# Altium schematic symbol library SCH - MCU - STM32 - ST MICROELECTRONICS STM32H750IBKX UFBGA176.SchLib: 1 symbol
Pins are listed as number, name and electrical type; pins without a type are passive.

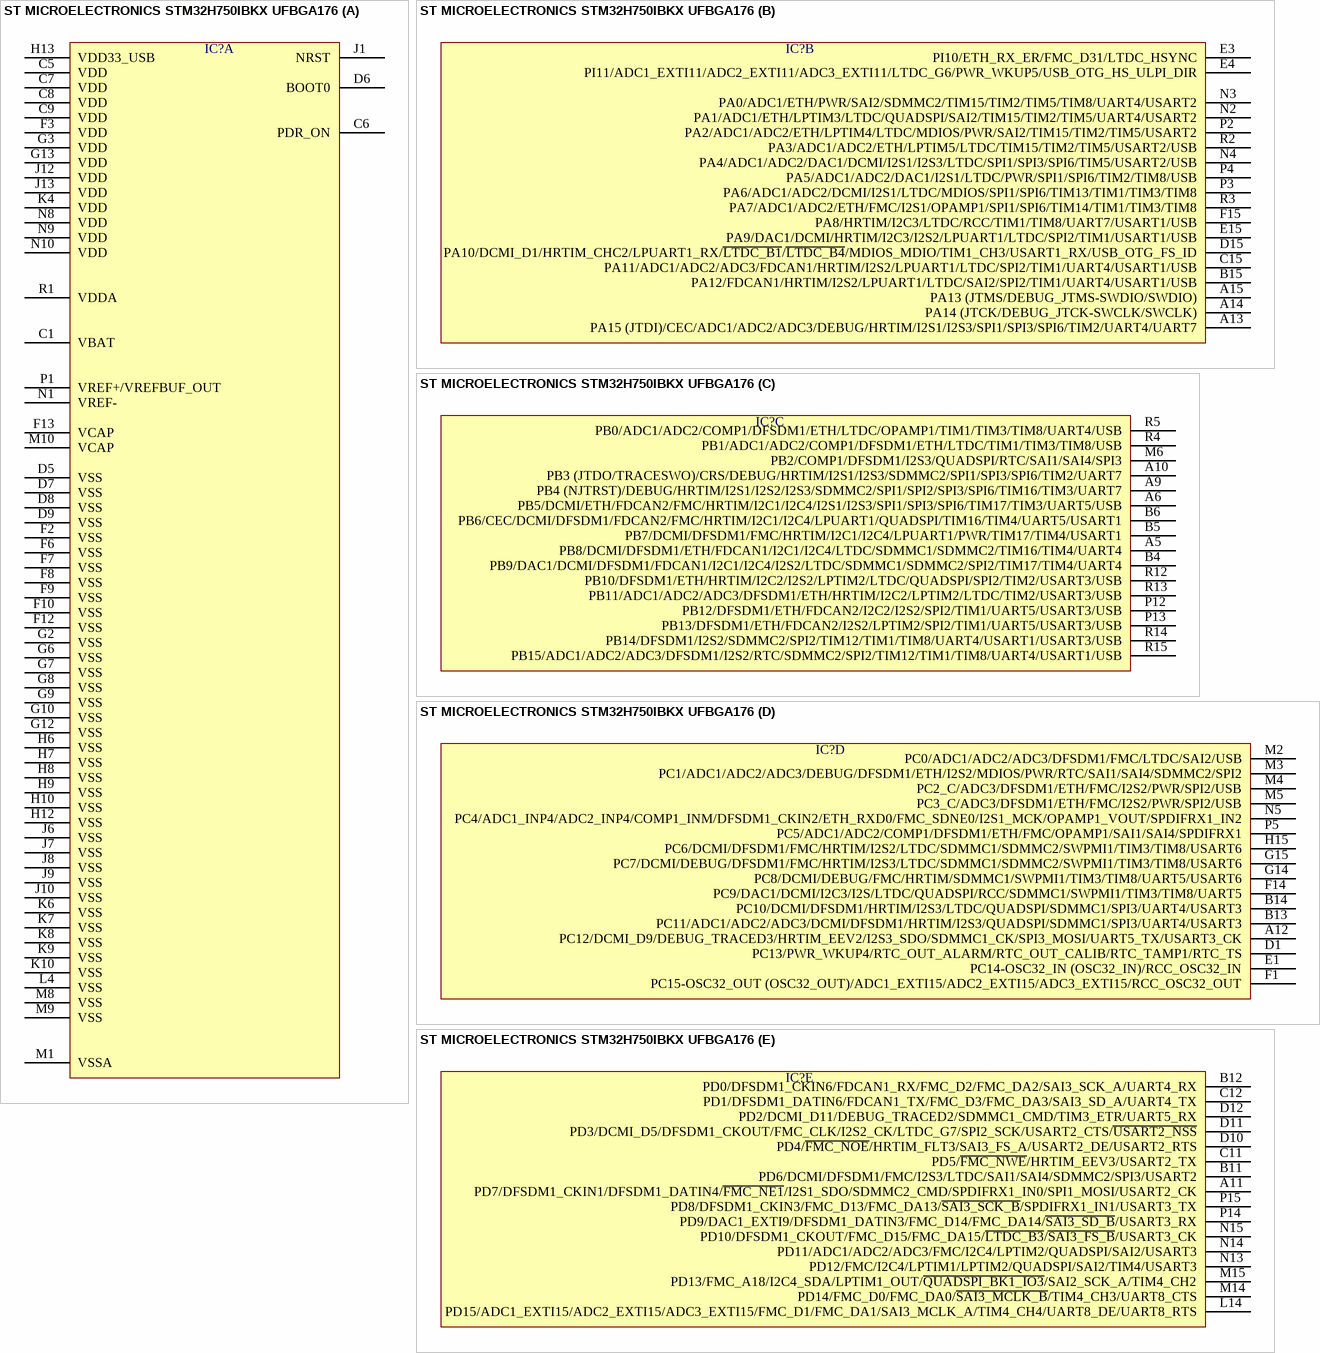
[diagram p0: symbol ST MICROELECTRONICS STM32H750IBKX UFBGA176]

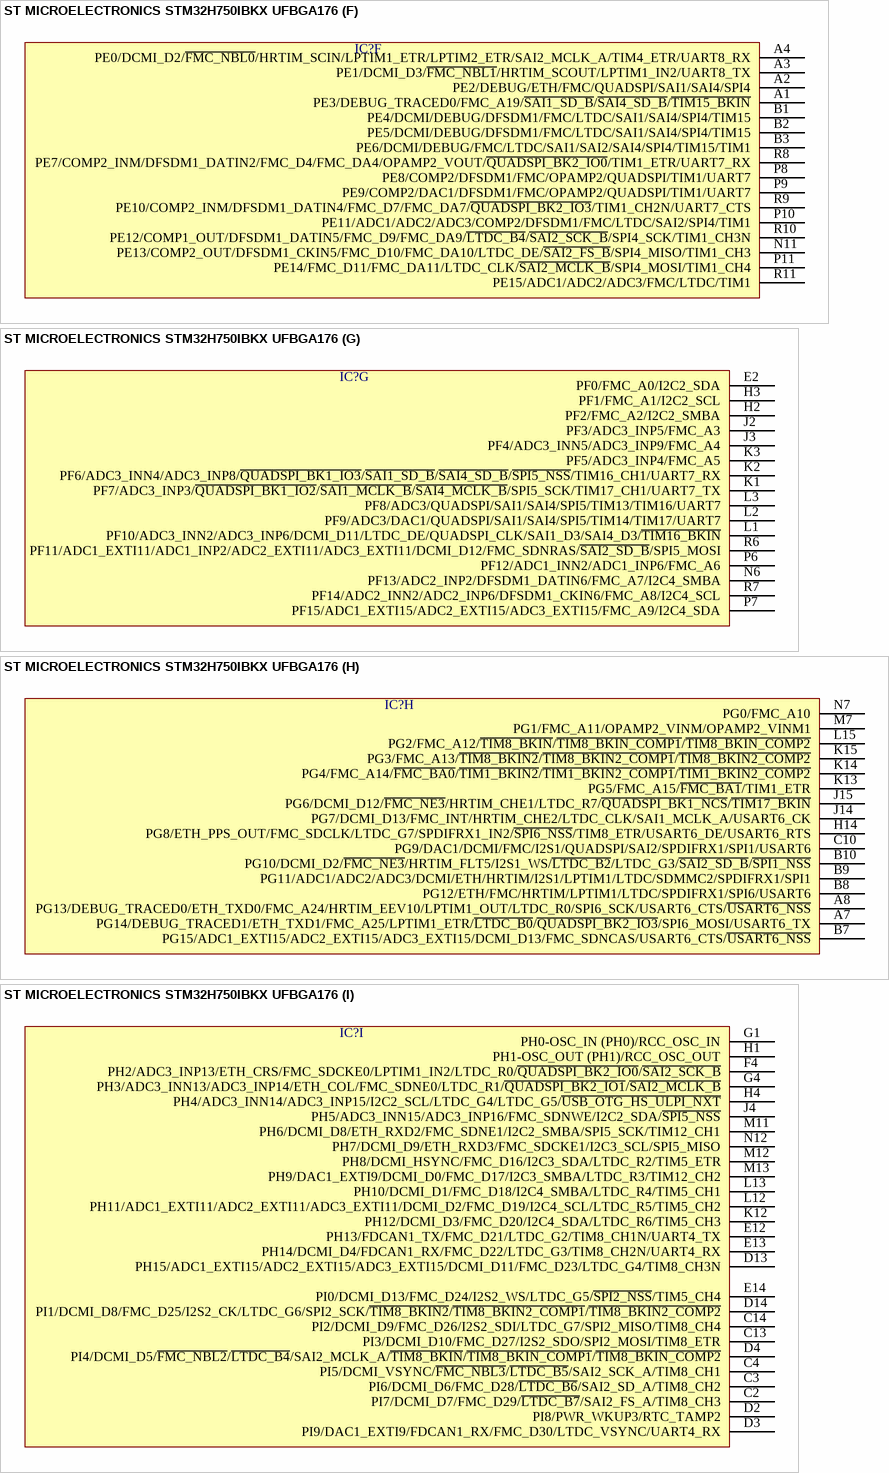
[diagram p1: symbol ST MICROELECTRONICS STM32H750IBKX UFBGA176]

## ST MICROELECTRONICS STM32H750IBKX UFBGA176
designator IC?  (value not drawn)
part A pins: C1 VBAT, C5 VDD, C6 PDR_ON, C7 VDD, C8 VDD, C9 VDD, D5 VSS, D6 BOOT0, D7 VSS, D8 VSS, D9 VSS, F2 VSS, F3 VDD, F6 VSS, F7 VSS, F8 VSS, F9 VSS, F10 VSS, F12 VSS, F13 VCAP, G2 VSS, G3 VDD, G6 VSS, G7 VSS, G8 VSS, G9 VSS, G10 VSS, G12 VSS, G13 VDD, H6 VSS, H7 VSS, H8 VSS, H9 VSS, H10 VSS, H12 VSS, H13 VDD33_USB, J1 NRST, J6 VSS, J7 VSS, J8 VSS, J9 VSS, J10 VSS, J12 VDD, J13 VDD, K4 VDD, K6 VSS, K7 VSS, K8 VSS, K9 VSS, K10 VSS, L4 VSS, M1 VSSA, M8 VSS, M9 VSS, M10 VCAP, N1 VREF-, N8 VDD, N9 VDD, N10 VDD, P1 VREF+/VREFBUF_OUT, R1 VDDA
part B pins: A13 PA15 (JTDI)/CEC/ADC1/ADC2/ADC3/DEBUG/HRTIM/I2S1/I2S3/SPI1/SPI3/SPI6/TIM2/UART4/UART7, A14 PA14 (JTCK/DEBUG_JTCK-SWCLK/SWCLK), A15 PA13 (JTMS/DEBUG_JTMS-SWDIO/SWDIO), B15 PA12/FDCAN1/HRTIM/I2S2/LPUART1/LTDC/SAI2/SPI2/TIM1/UART4/USART1/USB, C15 PA11/ADC1/ADC2/ADC3/FDCAN1/HRTIM/I2S2/LPUART1/LTDC/SPI2/TIM1/UART4/USART1/USB, D15 PA10/DCMI_D1/HRTIM_CHC2/LPUART1_RX/~{LTDC_B1}/~{LTDC_B4}/MDIOS_MDIO/TIM1_CH3/USART1_RX/USB_OTG_FS_ID, E3 PI10/ETH_RX_ER/FMC_D31/LTDC_HSYNC, E4 PI11/ADC1_EXTI11/ADC2_EXTI11/ADC3_EXTI11/LTDC_G6/PWR_WKUP5/USB_OTG_HS_ULPI_DIR, E15 PA9/DAC1/DCMI/HRTIM/I2C3/I2S2/LPUART1/LTDC/SPI2/TIM1/USART1/USB, F15 PA8/HRTIM/I2C3/LTDC/RCC/TIM1/TIM8/UART7/USART1/USB, N2 PA1/ADC1/ETH/LPTIM3/LTDC/QUADSPI/SAI2/TIM15/TIM2/TIM5/UART4/USART2, N3 PA0/ADC1/ETH/PWR/SAI2/SDMMC2/TIM15/TIM2/TIM5/TIM8/UART4/USART2, N4 PA4/ADC1/ADC2/DAC1/DCMI/I2S1/I2S3/LTDC/SPI1/SPI3/SPI6/TIM5/USART2/USB, P2 PA2/ADC1/ADC2/ETH/LPTIM4/LTDC/MDIOS/PWR/SAI2/TIM15/TIM2/TIM5/USART2, P3 PA6/ADC1/ADC2/DCMI/I2S1/LTDC/MDIOS/SPI1/SPI6/TIM13/TIM1/TIM3/TIM8, P4 PA5/ADC1/ADC2/DAC1/I2S1/LTDC/PWR/SPI1/SPI6/TIM2/TIM8/USB, R2 PA3/ADC1/ADC2/ETH/LPTIM5/LTDC/TIM15/TIM2/TIM5/USART2/USB, R3 PA7/ADC1/ADC2/ETH/FMC/I2S1/OPAMP1/SPI1/SPI6/TIM14/TIM1/TIM3/TIM8
part C pins: A5 PB8/DCMI/DFSDM1/ETH/FDCAN1/I2C1/I2C4/LTDC/SDMMC1/SDMMC2/TIM16/TIM4/UART4, A6 PB5/DCMI/ETH/FDCAN2/FMC/HRTIM/I2C1/I2C4/I2S1/I2S3/SPI1/SPI3/SPI6/TIM17/TIM3/UART5/USB, A9 PB4 (NJTRST)/DEBUG/HRTIM/I2S1/I2S2/I2S3/SDMMC2/SPI1/SPI2/SPI3/SPI6/TIM16/TIM3/UART7, A10 PB3 (JTDO/TRACESWO)/CRS/DEBUG/HRTIM/I2S1/I2S3/SDMMC2/SPI1/SPI3/SPI6/TIM2/UART7, B4 PB9/DAC1/DCMI/DFSDM1/FDCAN1/I2C1/I2C4/I2S2/LTDC/SDMMC1/SDMMC2/SPI2/TIM17/TIM4/UART4, B5 PB7/DCMI/DFSDM1/FMC/HRTIM/I2C1/I2C4/LPUART1/PWR/TIM17/TIM4/USART1, B6 PB6/CEC/DCMI/DFSDM1/FDCAN2/FMC/HRTIM/I2C1/I2C4/LPUART1/QUADSPI/TIM16/TIM4/UART5/USART1, M6 PB2/COMP1/DFSDM1/I2S3/QUADSPI/RTC/SAI1/SAI4/SPI3, P12 PB12/DFSDM1/ETH/FDCAN2/I2C2/I2S2/SPI2/TIM1/UART5/USART3/USB, P13 PB13/DFSDM1/ETH/FDCAN2/I2S2/LPTIM2/SPI2/TIM1/UART5/USART3/USB, R4 PB1/ADC1/ADC2/COMP1/DFSDM1/ETH/LTDC/TIM1/TIM3/TIM8/USB, R5 PB0/ADC1/ADC2/COMP1/DFSDM1/ETH/LTDC/OPAMP1/TIM1/TIM3/TIM8/UART4/USB, R12 PB10/DFSDM1/ETH/HRTIM/I2C2/I2S2/LPTIM2/LTDC/QUADSPI/SPI2/TIM2/USART3/USB, R13 PB11/ADC1/ADC2/ADC3/DFSDM1/ETH/HRTIM/I2C2/LPTIM2/LTDC/TIM2/USART3/USB, R14 PB14/DFSDM1/I2S2/SDMMC2/SPI2/TIM12/TIM1/TIM8/UART4/USART1/USART3/USB, R15 PB15/ADC1/ADC2/ADC3/DFSDM1/I2S2/RTC/SDMMC2/SPI2/TIM12/TIM1/TIM8/UART4/USART1/USB
part D pins: A12 PC12/DCMI_D9/DEBUG_TRACED3/HRTIM_EEV2/I2S3_SDO/SDMMC1_CK/SPI3_MOSI/UART5_TX/USART3_CK, B13 PC11/ADC1/ADC2/ADC3/DCMI/DFSDM1/HRTIM/I2S3/QUADSPI/SDMMC1/SPI3/UART4/USART3, B14 PC10/DCMI/DFSDM1/HRTIM/I2S3/LTDC/QUADSPI/SDMMC1/SPI3/UART4/USART3, D1 PC13/PWR_WKUP4/RTC_OUT_ALARM/RTC_OUT_CALIB/RTC_TAMP1/RTC_TS, E1 PC14-OSC32_IN (OSC32_IN)/RCC_OSC32_IN, F1 PC15-OSC32_OUT (OSC32_OUT)/ADC1_EXTI15/ADC2_EXTI15/ADC3_EXTI15/RCC_OSC32_OUT, F14 PC9/DAC1/DCMI/I2C3/I2S/LTDC/QUADSPI/RCC/SDMMC1/SWPMI1/TIM3/TIM8/UART5, G14 PC8/DCMI/DEBUG/FMC/HRTIM/SDMMC1/SWPMI1/TIM3/TIM8/UART5/USART6, G15 PC7/DCMI/DEBUG/DFSDM1/FMC/HRTIM/I2S3/LTDC/SDMMC1/SDMMC2/SWPMI1/TIM3/TIM8/USART6, H15 PC6/DCMI/DFSDM1/FMC/HRTIM/I2S2/LTDC/SDMMC1/SDMMC2/SWPMI1/TIM3/TIM8/USART6, M2 PC0/ADC1/ADC2/ADC3/DFSDM1/FMC/LTDC/SAI2/USB, M3 PC1/ADC1/ADC2/ADC3/DEBUG/DFSDM1/ETH/I2S2/MDIOS/PWR/RTC/SAI1/SAI4/SDMMC2/SPI2, M4 PC2_C/ADC3/DFSDM1/ETH/FMC/I2S2/PWR/SPI2/USB, M5 PC3_C/ADC3/DFSDM1/ETH/FMC/I2S2/PWR/SPI2/USB, N5 PC4/ADC1_INP4/ADC2_INP4/COMP1_INM/DFSDM1_CKIN2/ETH_RXD0/FMC_SDNE0/I2S1_MCK/OPAMP1_VOUT/SPDIFRX1_IN2, P5 PC5/ADC1/ADC2/COMP1/DFSDM1/ETH/FMC/OPAMP1/SAI1/SAI4/SPDIFRX1
part E pins: A11 PD7/DFSDM1_CKIN1/DFSDM1_DATIN4/~{FMC_NE1}/I2S1_SDO/SDMMC2_CMD/SPDIFRX1_IN0/SPI1_MOSI/USART2_CK, B11 PD6/DCMI/DFSDM1/FMC/I2S3/LTDC/SAI1/SAI4/SDMMC2/SPI3/USART2, B12 PD0/DFSDM1_CKIN6/FDCAN1_RX/FMC_D2/FMC_DA2/SAI3_SCK_A/UART4_RX, C11 PD5/~{FMC_NWE}/HRTIM_EEV3/USART2_TX, C12 PD1/DFSDM1_DATIN6/FDCAN1_TX/FMC_D3/FMC_DA3/SAI3_SD_A/UART4_TX, D10 PD4/~{FMC_NOE}/HRTIM_FLT3/SAI3_FS_A/USART2_DE/USART2_RTS, D11 PD3/DCMI_D5/DFSDM1_CKOUT/FMC_CLK/I2S2_CK/LTDC_G7/SPI2_SCK/USART2_CTS/~{USART2_NSS}, D12 PD2/DCMI_D11/DEBUG_TRACED2/SDMMC1_CMD/TIM3_ETR/UART5_RX, L14 PD15/ADC1_EXTI15/ADC2_EXTI15/ADC3_EXTI15/FMC_D1/FMC_DA1/SAI3_MCLK_A/TIM4_CH4/UART8_DE/UART8_RTS, M14 PD14/FMC_D0/FMC_DA0/~{SAI3_MCLK_B}/TIM4_CH3/UART8_CTS, M15 PD13/FMC_A18/I2C4_SDA/LPTIM1_OUT/~{QUADSPI_BK1_IO3}/SAI2_SCK_A/TIM4_CH2, N13 PD12/FMC/I2C4/LPTIM1/LPTIM2/QUADSPI/SAI2/TIM4/USART3, N14 PD11/ADC1/ADC2/ADC3/FMC/I2C4/LPTIM2/QUADSPI/SAI2/USART3, N15 PD10/DFSDM1_CKOUT/FMC_D15/FMC_DA15/~{LTDC_B3}/~{SAI3_FS_B}/USART3_CK, P14 PD9/DAC1_EXTI9/DFSDM1_DATIN3/FMC_D14/FMC_DA14/~{SAI3_SD_B}/USART3_RX, P15 PD8/DFSDM1_CKIN3/FMC_D13/FMC_DA13/~{SAI3_SCK_B}/SPDIFRX1_IN1/USART3_TX
part F pins: A1 PE3/DEBUG_TRACED0/FMC_A19/~{SAI1_SD_B}/~{SAI4_SD_B}/~{TIM15_BKIN}, A2 PE2/DEBUG/ETH/FMC/QUADSPI/SAI1/SAI4/SPI4, A3 PE1/DCMI_D3/~{FMC_NBL1}/HRTIM_SCOUT/LPTIM1_IN2/UART8_TX, A4 PE0/DCMI_D2/~{FMC_NBL0}/HRTIM_SCIN/LPTIM1_ETR/LPTIM2_ETR/SAI2_MCLK_A/TIM4_ETR/UART8_RX, B1 PE4/DCMI/DEBUG/DFSDM1/FMC/LTDC/SAI1/SAI4/SPI4/TIM15, B2 PE5/DCMI/DEBUG/DFSDM1/FMC/LTDC/SAI1/SAI4/SPI4/TIM15, B3 PE6/DCMI/DEBUG/FMC/LTDC/SAI1/SAI2/SAI4/SPI4/TIM15/TIM1, N11 PE13/COMP2_OUT/DFSDM1_CKIN5/FMC_D10/FMC_DA10/LTDC_DE/~{SAI2_FS_B}/SPI4_MISO/TIM1_CH3, P8 PE8/COMP2/DFSDM1/FMC/OPAMP2/QUADSPI/TIM1/UART7, P9 PE9/COMP2/DAC1/DFSDM1/FMC/OPAMP2/QUADSPI/TIM1/UART7, P10 PE11/ADC1/ADC2/ADC3/COMP2/DFSDM1/FMC/LTDC/SAI2/SPI4/TIM1, P11 PE14/FMC_D11/FMC_DA11/LTDC_CLK/~{SAI2_MCLK_B}/SPI4_MOSI/TIM1_CH4, R8 PE7/COMP2_INM/DFSDM1_DATIN2/FMC_D4/FMC_DA4/OPAMP2_VOUT/~{QUADSPI_BK2_IO0}/TIM1_ETR/UART7_RX, R9 PE10/COMP2_INM/DFSDM1_DATIN4/FMC_D7/FMC_DA7/~{QUADSPI_BK2_IO3}/TIM1_CH2N/UART7_CTS, R10 PE12/COMP1_OUT/DFSDM1_DATIN5/FMC_D9/FMC_DA9/~{LTDC_B4}/~{SAI2_SCK_B}/SPI4_SCK/TIM1_CH3N, R11 PE15/ADC1/ADC2/ADC3/FMC/LTDC/TIM1
part G pins: E2 PF0/FMC_A0/I2C2_SDA, H2 PF2/FMC_A2/I2C2_SMBA, H3 PF1/FMC_A1/I2C2_SCL, J2 PF3/ADC3_INP5/FMC_A3, J3 PF4/ADC3_INN5/ADC3_INP9/FMC_A4, K1 PF7/ADC3_INP3/~{QUADSPI_BK1_IO2}/~{SAI1_MCLK_B}/~{SAI4_MCLK_B}/SPI5_SCK/TIM17_CH1/UART7_TX, K2 PF6/ADC3_INN4/ADC3_INP8/~{QUADSPI_BK1_IO3}/~{SAI1_SD_B}/~{SAI4_SD_B}/~{SPI5_NSS}/TIM16_CH1/UART7_RX, K3 PF5/ADC3_INP4/FMC_A5, L1 PF10/ADC3_INN2/ADC3_INP6/DCMI_D11/LTDC_DE/QUADSPI_CLK/SAI1_D3/SAI4_D3/~{TIM16_BKIN}, L2 PF9/ADC3/DAC1/QUADSPI/SAI1/SAI4/SPI5/TIM14/TIM17/UART7, L3 PF8/ADC3/QUADSPI/SAI1/SAI4/SPI5/TIM13/TIM16/UART7, N6 PF13/ADC2_INP2/DFSDM1_DATIN6/FMC_A7/I2C4_SMBA, P6 PF12/ADC1_INN2/ADC1_INP6/FMC_A6, P7 PF15/ADC1_EXTI15/ADC2_EXTI15/ADC3_EXTI15/FMC_A9/I2C4_SDA, R6 PF11/ADC1_EXTI11/ADC1_INP2/ADC2_EXTI11/ADC3_EXTI11/DCMI_D12/FMC_SDNRAS/~{SAI2_SD_B}/SPI5_MOSI, R7 PF14/ADC2_INN2/ADC2_INP6/DFSDM1_CKIN6/FMC_A8/I2C4_SCL
part H pins: A7 PG14/DEBUG_TRACED1/ETH_TXD1/FMC_A25/LPTIM1_ETR/~{LTDC_B0}/~{QUADSPI_BK2_IO3}/SPI6_MOSI/USART6_TX, A8 PG13/DEBUG_TRACED0/ETH_TXD0/FMC_A24/HRTIM_EEV10/LPTIM1_OUT/LTDC_R0/SPI6_SCK/USART6_CTS/~{USART6_NSS}, B7 PG15/ADC1_EXTI15/ADC2_EXTI15/ADC3_EXTI15/DCMI_D13/FMC_SDNCAS/USART6_CTS/~{USART6_NSS}, B8 PG12/ETH/FMC/HRTIM/LPTIM1/LTDC/SPDIFRX1/SPI6/USART6, B9 PG11/ADC1/ADC2/ADC3/DCMI/ETH/HRTIM/I2S1/LPTIM1/LTDC/SDMMC2/SPDIFRX1/SPI1, B10 PG10/DCMI_D2/~{FMC_NE3}/HRTIM_FLT5/I2S1_WS/~{LTDC_B2}/LTDC_G3/~{SAI2_SD_B}/~{SPI1_NSS}, C10 PG9/DAC1/DCMI/FMC/I2S1/QUADSPI/SAI2/SPDIFRX1/SPI1/USART6, H14 PG8/ETH_PPS_OUT/FMC_SDCLK/LTDC_G7/SPDIFRX1_IN2/~{SPI6_NSS}/TIM8_ETR/USART6_DE/USART6_RTS, J14 PG7/DCMI_D13/FMC_INT/HRTIM_CHE2/LTDC_CLK/SAI1_MCLK_A/USART6_CK, J15 PG6/DCMI_D12/~{FMC_NE3}/HRTIM_CHE1/LTDC_R7/~{QUADSPI_BK1_NCS}/~{TIM17_BKIN}, K13 PG5/FMC_A15/~{FMC_BA1}/TIM1_ETR, K14 PG4/FMC_A14/~{FMC_BA0}/~{TIM1_BKIN2}/~{TIM1_BKIN2_COMP1}/~{TIM1_BKIN2_COMP2}, K15 PG3/FMC_A13/~{TIM8_BKIN2}/~{TIM8_BKIN2_COMP1}/~{TIM8_BKIN2_COMP2}, L15 PG2/FMC_A12/~{TIM8_BKIN}/~{TIM8_BKIN_COMP1}/~{TIM8_BKIN_COMP2}, M7 PG1/FMC_A11/OPAMP2_VINM/OPAMP2_VINM1, N7 PG0/FMC_A10
part I pins: C2 PI7/DCMI_D7/FMC_D29/~{LTDC_B7}/SAI2_FS_A/TIM8_CH3, C3 PI6/DCMI_D6/FMC_D28/~{LTDC_B6}/SAI2_SD_A/TIM8_CH2, C4 PI5/DCMI_VSYNC/~{FMC_NBL3}/~{LTDC_B5}/SAI2_SCK_A/TIM8_CH1, C13 PI3/DCMI_D10/FMC_D27/I2S2_SDO/SPI2_MOSI/TIM8_ETR, C14 PI2/DCMI_D9/FMC_D26/I2S2_SDI/LTDC_G7/SPI2_MISO/TIM8_CH4, D2 PI8/PWR_WKUP3/RTC_TAMP2, D3 PI9/DAC1_EXTI9/FDCAN1_RX/FMC_D30/LTDC_VSYNC/UART4_RX, D4 PI4/DCMI_D5/~{FMC_NBL2}/~{LTDC_B4}/SAI2_MCLK_A/~{TIM8_BKIN}/~{TIM8_BKIN_COMP1}/~{TIM8_BKIN_COMP2}, D13 PH15/ADC1_EXTI15/ADC2_EXTI15/ADC3_EXTI15/DCMI_D11/FMC_D23/LTDC_G4/TIM8_CH3N, D14 PI1/DCMI_D8/FMC_D25/I2S2_CK/LTDC_G6/SPI2_SCK/~{TIM8_BKIN2}/~{TIM8_BKIN2_COMP1}/~{TIM8_BKIN2_COMP2}, E12 PH13/FDCAN1_TX/FMC_D21/LTDC_G2/TIM8_CH1N/UART4_TX, E13 PH14/DCMI_D4/FDCAN1_RX/FMC_D22/LTDC_G3/TIM8_CH2N/UART4_RX, E14 PI0/DCMI_D13/FMC_D24/I2S2_WS/LTDC_G5/~{SPI2_NSS}/TIM5_CH4, F4 PH2/ADC3_INP13/ETH_CRS/FMC_SDCKE0/LPTIM1_IN2/LTDC_R0/~{QUADSPI_BK2_IO0}/~{SAI2_SCK_B}, G1 PH0-OSC_IN (PH0)/RCC_OSC_IN, G4 PH3/ADC3_INN13/ADC3_INP14/ETH_COL/FMC_SDNE0/LTDC_R1/~{QUADSPI_BK2_IO1}/~{SAI2_MCLK_B}, H1 PH1-OSC_OUT (PH1)/RCC_OSC_OUT, H4 PH4/ADC3_INN14/ADC3_INP15/I2C2_SCL/LTDC_G4/LTDC_G5/~{USB_OTG_HS_ULPI_NXT}, J4 PH5/ADC3_INN15/ADC3_INP16/FMC_SDNWE/I2C2_SDA/~{SPI5_NSS}, K12 PH12/DCMI_D3/FMC_D20/I2C4_SDA/LTDC_R6/TIM5_CH3, L12 PH11/ADC1_EXTI11/ADC2_EXTI11/ADC3_EXTI11/DCMI_D2/FMC_D19/I2C4_SCL/LTDC_R5/TIM5_CH2, L13 PH10/DCMI_D1/FMC_D18/I2C4_SMBA/LTDC_R4/TIM5_CH1, M11 PH6/DCMI_D8/ETH_RXD2/FMC_SDNE1/I2C2_SMBA/SPI5_SCK/TIM12_CH1, M12 PH8/DCMI_HSYNC/FMC_D16/I2C3_SDA/LTDC_R2/TIM5_ETR, M13 PH9/DAC1_EXTI9/DCMI_D0/FMC_D17/I2C3_SMBA/LTDC_R3/TIM12_CH2, N12 PH7/DCMI_D9/ETH_RXD3/FMC_SDCKE1/I2C3_SCL/SPI5_MISO